# Altium schematic symbol library gyh的原理图库 .SCHLIB: 49 symbols
Pins are listed as number, name and electrical type; pins without a type are passive.

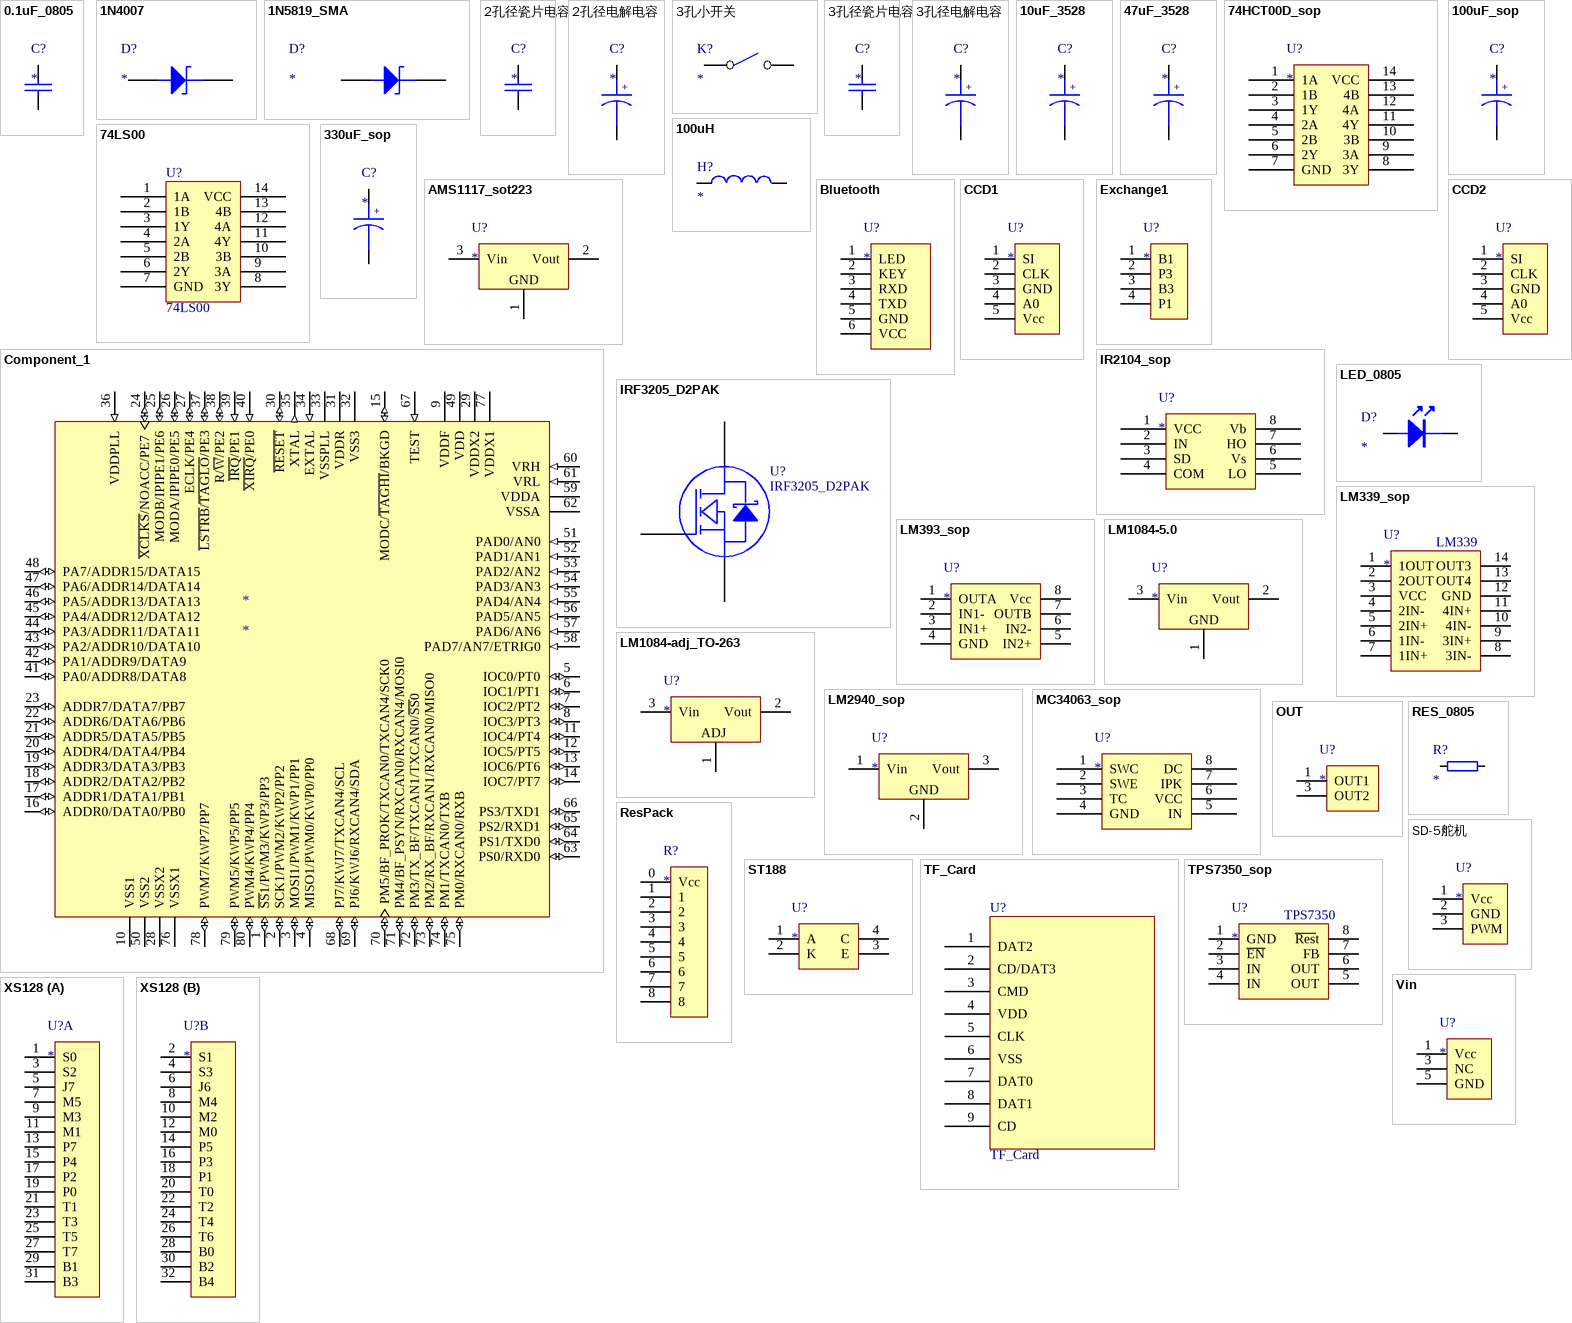
[diagram p0: symbols 0.1uF_0805 to XS128]

## 0.1uF_0805
designator C?
footprint 0805
pins: 1, 2

## 1N4007
designator D?
footprint 2孔径电解电容
pins: 1 A, 2 K

## 1N5819_SMA
designator D?
footprint SS14_SMA (Molded Diode, 2-Leads, Body 4.3x2.6mm, IPC Low Density)
pins: 1 A, 2 K

## 2孔径瓷片电容
designator C?
footprint 2孔径瓷片电容
pins: 1, 2

## 2孔径电解电容
designator C?
footprint 2孔径电解电容
pins: 1, 2
text: +

## 3孔小开关
designator K?
footprint 3孔开关
pins: 1, 2

## 3孔径瓷片电容
designator C?
footprint 3孔径瓷片电容
pins: 1, 2

## 3孔径电解电容
designator C?
footprint 3孔径电解电容
pins: 1, 2
text: +

## 10uF_3528
designator C?
footprint 3528_B
pins: 1, 2
text: +

## 47uF_3528
designator C?
footprint 3528_B
pins: 1, 2
text: +

## 74HCT00D_sop
designator U?
footprint SOP-14 (SOIC, 14-Leads, Body 8.8x4.0mm (max), Pitch 1.27mm, IPC Medium Density)
pins: 1 1A, 2 1B, 3 1Y, 4 2A, 5 2B, 6 2Y, 7 GND, 8 3Y, 9 3A, 10 3B, 11 4Y, 12 4A, 13 4B, 14 VCC

## 74LS00
designator U?
footprint DIP14
pins: 1 1A, 2 1B, 3 1Y, 4 2A, 5 2B, 6 2Y, 7 GND, 8 3Y, 9 3A, 10 3B, 11 4Y, 12 4A, 13 4B, 14 VCC

## 100uF_sop
designator C?
footprint 100uF_SOP (6.3*5.4mm)
pins: 1, 2
text: +

## 100uH
designator H?
footprint 2孔径瓷片电容
pins: 1, 2

## 330uF_sop
designator C?
footprint 330uF_SOP (8*10.2)
pins: 1, 2
text: +

## AMS1117_sot223
designator U?
footprint SOT223_forAMS1117 (SOT223, 4-Leads, Body 6.7x7.3mm (max), Pitch 2.30mm, IPC Low Density)
pins: 1 GND, 2 Vout, 3 Vin

## Bluetooth
designator U?
footprint Bluetooth
pins: 1 LED, 2 KEY, 3 RXD, 4 TXD, 5 GND, 6 VCC

## CCD1
designator U?
footprint CCD
pins: 1 SI, 2 CLK, 3 GND, 4 A0, 5 Vcc

## CCD2
designator U?
footprint CCD
pins: 1 SI, 2 CLK, 3 GND, 4 A0, 5 Vcc

## Component_1
designator *
pins: 1 ~{SS}1/PWM3/KWP3/PP3 (io), 2 SCK1/PWM2/KWP2/PP2 (io), 3 MOSI1/PWM1/KWP1/PP1 (io), 4 MISO1/PWM0/KWP0/PP0 (io), 5 IOC0/PT0 (io), 6 IOC1/PT1 (io), 7 IOC2/PT2 (io), 8 IOC3/PT3 (io), 9 VDDF (power), 10 VSS1 (power), 11 IOC4/PT4 (io), 12 IOC5/PT5 (io), 13 IOC6/PT6 (io), 14 IOC7/PT7 (io), 15 MODC/~{TAGHI}/BKGD (io), 16 ADDR0/DATA0/PB0 (io), 17 ADDR1/DATA1/PB1 (io), 18 ADDR2/DATA2/PB2 (io), 19 ADDR3/DATA3/PB3 (io), 20 ADDR4/DATA4/PB4 (io), 21 ADDR5/DATA5/PB5 (io), 22 ADDR6/DATA6/PB6 (io), 23 ADDR7/DATA7/PB7 (io), 24 ~{XCLKS}/NOACC/PE7 (io), 25 MODB/IPIPE1/PE6 (io), 26 MODA/IPIPE0/PE5 (io), 27 ECLK/PE4 (io), 28 VSSX2 (power), 29 VDDX2 (power), 30 ~{RESET} (io), 31 VDDR (power), 32 VSS3, 33 VSSPLL (power), 34 EXTAL (in), 35 XTAL (out), 36 VDDPLL (in), 37 ~{LSTRB}/~{TAGLO}/PE3 (io), 38 R/~{W}/PE2 (io), 39 ~{IRQ}/PE1 (in), 40 ~{XIRQ}/PE0 (in), 41 PA0/ADDR8/DATA8 (io), 42 PA1/ADDR9/DATA9 (io), 43 PA2/ADDR10/DATA10 (io), 44 PA3/ADDR11/DATA11 (io), 45 PA4/ADDR12/DATA12 (io), 46 PA5/ADDR13/DATA13 (io), 47 PA6/ADDR14/DATA14 (io), 48 PA7/ADDR15/DATA15 (io), 49 VDD (power), 50 VSS2 (power), 51 PAD0/AN0 (in), 52 PAD1/AN1 (in), 53 PAD2/AN2 (in), 54 PAD3/AN3 (in), 55 PAD4/AN4 (in), 56 PAD5/AN5 (in), 57 PAD6/AN6 (in), 58 PAD7/AN7/ETRIG0 (in), 59 VDDA (power), 60 VRH (in), 61 VRL (in), 62 VSSA (power), 63 PS0/RXD0 (io), 64 PS1/TXD0 (io), 65 PS2/RXD1 (io), 66 PS3/TXD1 (io), 67 TEST (in), 68 PJ7/KWJ7/TXCAN4/SCL (io), 69 PJ6/KWJ6/RXCAN4/SDA (io), 70 PM5/BF_PROK/TXCAN0/TXCAN4/SCK0 (io), 71 PM4/BF_PSYN/RXCAN0/RXCAN4/MOSI0 (io), 72 PM3/TX_BF/TXCAN1/TXCAN0/~{SS}0 (io), 73 PM2/RX_BF/RXCAN1/RXCAN0/MISO0 (io), 74 PM1/TXCAN0/TXB (io), 75 PM0/RXCAN0/RXB (io), 76 VSSX1 (power), 77 VDDX1 (power), 78 PWM7/KWP7/PP7 (io), 79 PWM5/KWP5/PP5 (io), 80 PWM4/KWP4/PP4 (io)

## Exchange1
designator U?
footprint Exchange1
pins: 1 B1, 2 P3, 3 B3, 4 P1

## IR2104_sop
designator U?
footprint SOP-8 (SOIC, 8-Leads, Body 5.0x4.0mm (max), Pitch 1.27mm, IPC Medium Density)
pins: 1 VCC, 2 IN, 3 SD, 4 COM, 5 LO, 6 Vs, 7 HO, 8 Vb

## IRF3205_D2PAK
designator U?
footprint D2PAK_forIRF3205
pins: 1 G, 2 D, 3 S

## LED_0805
designator D?
footprint 0805
pins: 1, 2

## LM339_sop
designator U?
footprint SOP-14 (SOIC, 14-Leads, Body 8.8x4.0mm (max), Pitch 1.27mm, IPC Medium Density)
pins: 1 1OUT, 2 2OUT, 3 VCC, 4 2IN-, 5 2IN+, 6 1IN-, 7 1IN+, 8 3IN-, 9 3IN+, 10 4IN-, 11 4IN+, 12 GND, 13 OUT4, 14 OUT3
text: LM339

## LM393_sop
designator U?
footprint SOP-8 (SOIC, 8-Leads, Body 5.0x4.0mm (max), Pitch 1.27mm, IPC Medium Density)
pins: 1 OUTA, 2 IN1-, 3 IN1+, 4 GND, 5 IN2+, 6 IN2-, 7 OUTB, 8 Vcc

## LM1084-5.0
designator U?
footprint TO-220
pins: 1 GND, 2 Vout, 3 Vin

## LM1084-adj_TO-263
designator U?
footprint TO-263_for1084 (D2-PAK, 3-Pads, Body 8.9x10.4mm (max), IPC Low Density)
pins: 1 ADJ, 2 Vout, 3 Vin

## LM2940_sop
designator U?
footprint TO-220
footprint TO-263_for1084 (D2-PAK, 3-Pads, Body 8.9x10.4mm (max), IPC Low Density)
pins: 1 Vin, 2 GND, 3 Vout

## MC34063_sop
designator U?
footprint SOP-8 (SOIC, 8-Leads, Body 5.0x4.0mm (max), Pitch 1.27mm, IPC Medium Density)
pins: 1 SWC, 2 SWE, 3 TC, 4 GND, 5 IN, 6 VCC, 7 IPK, 8 DC

## OUT
designator U?
footprint OUT~2
pins: 1 OUT1, 3 OUT2

## RES_0805
designator R?
footprint 0805
pins: 1, 2

## ResPack
designator R?
footprint ResPack
pins: 0 Vcc, 1, 2, 3, 4, 5, 6, 7, 8

## SD-5舵机
designator U?
footprint SD-5舵机
pins: 1 Vcc, 2 GND, 3 PWM

## ST188
designator U?
footprint ST188
pins: 1 A, 2 K, 3 E, 4 C

## TF_Card
designator U?
footprint TF_Card
pins: 1 DAT2, 2 CD/DAT3, 3 CMD, 4 VDD, 5 CLK, 6 VSS, 7 DAT0, 8 DAT1, 9 CD

## TPS7350_sop
designator U?
footprint SOP-8 (SOIC, 8-Leads, Body 5.0x4.0mm (max), Pitch 1.27mm, IPC Medium Density)
pins: 1 GND, 2 ~{EN}, 3 IN, 4 IN, 5 OUT, 6 OUT, 7 FB, 8 ~{Res}t
text: TPS7350

## Vin
designator U?
footprint Vin
pins: 1 Vcc, 3 NC, 5 GND

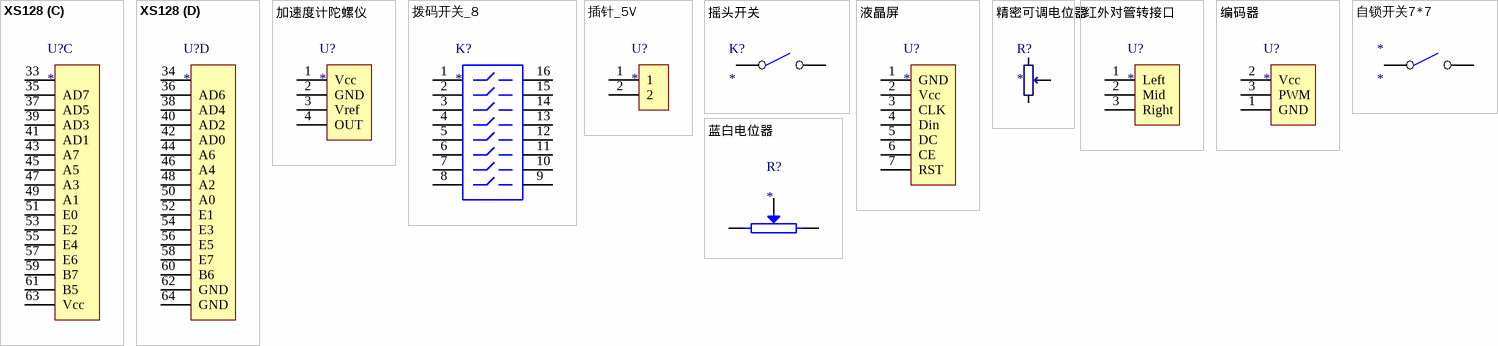
[diagram p1: symbols XS128 to 蓝白电位器]

## XS128
designator U?
footprint XS128
part A pins: 1 S0, 3 S2, 5 J7, 7 M5, 9 M3, 11 M1, 13 P7, 15 P4, 17 P2, 19 P0, 21 T1, 23 T3, 25 T5, 27 T7, 29 B1, 31 B3
part B pins: 2 S1, 4 S3, 6 J6, 8 M4, 10 M2, 12 M0, 14 P5, 16 P3, 18 P1, 20 T0, 22 T2, 24 T4, 26 T6, 28 B0, 30 B2, 32 B4
part C pins: 33 17, 35 AD7, 37 AD5, 39 AD3, 41 AD1, 43 A7, 45 A5, 47 A3, 49 A1, 51 E0, 53 E2, 55 E4, 57 E6, 59 B7, 61 B5, 63 Vcc
part D pins: 34 64, 36 AD6, 38 AD4, 40 AD2, 42 AD0, 44 A6, 46 A4, 48 A2, 50 A0, 52 E1, 54 E3, 56 E5, 58 E7, 60 B6, 62 GND, 64 GND

## 加速度计陀螺仪
designator U?
footprint 加速度计陀螺仪
pins: 1 Vcc, 2 GND, 3 Vref, 4 OUT

## 拨码开关_8
designator K?
footprint 拨码开关
pins: 1, 2, 3, 4, 5, 6, 7, 8, 9, 10, 11, 12, 13, 14, 15, 16

## 插针_5V
designator U?
footprint 插针_2
pins: 1, 2

## 摇头开关
designator K?
footprint 摇头开关
pins: 1, 2

## 液晶屏
designator U?
footprint 液晶
pins: 1 GND, 2 Vcc, 3 CLK, 4 Din, 5 DC, 6 CE, 7 RST

## 精密可调电位器
designator R?
footprint 精密可调电位器
pins: 1, 2, 3

## 红外对管转接口
designator U?
footprint 74LS00转接口
pins: 1 Left, 2 Mid, 3 Right

## 编码器
designator U?
footprint 编码器
pins: 1 GND, 2 Vcc, 3 PWM

## 自锁开关7*7
designator *
footprint 自锁开关7*7
pins: 1, 2

## 蓝白电位器
designator R?
footprint 蓝白电位器
pins: 1, 2, 3 W